# Altium integrated library MQPComponents.IntLib: 3 symbols
Pins are listed as number, name and electrical type; pins without a type are passive.

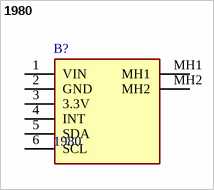
[diagram p0: symbol 1980]

## 1980
designator B?
Optical Sensor Development Tools TSL2591 High Dynamic Digital Light Sensor; Manufacturer_Name: Adafruit; Geometry.Height: 3mm; Manufacturer_Part_Number: 1980; Mouser Part Number: 485-1980; Mouser Price/Stock: https://www.mouser.co.uk/ProductDetail/Adafruit/1980?qs=GURawfaeGuBXNh1gLjQA3Q%3D%3D; Arrow Part Number: 1980; Arrow Price/Stock: https://www.arrow.com/en/products/1980/adafruit-industries?region=nac; Datasheet Link: https://learn.adafruit.com/adafruit-tsl2591/downloads
footprint 1980
pins: 1 VIN, 2 GND, 3 3.3V, 4 INT, 5 SDA, 6 SCL, MH1, MH2


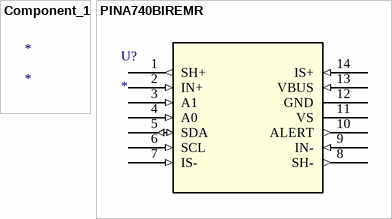
[diagram p1: symbols Component_1 to PINA740BIREMR]

## Component_1
designator *

## PINA740BIREMR
designator U?
No Description Available; Mfr_Name: Texas Instruments; Type: Linear; RefDes: RefDes
footprint VQFN14_REM_TEX
pins: 1 SH+ (out), 2 IN+ (in), 3 A1 (in), 4 A0 (in), 5 SDA (io), 6 SCL (in), 7 IS- (in), 8 SH- (out), 9 IN- (in), 10 ALERT (out), 11 VS (power), 12 GND (power), 13 VBUS (in), 14 IS+ (in)